# Altium footprint library DT15-4P.PcbLib: 1 footprints
Each footprint in its own frame and in the unit in brackets; x right, y up, seen from the top. Pads: shape width x height; smd on the part's side, far side on the other; paste and mask are expansions set on the pad; w line width, h text height; cw(c..) or ccw(c..) is an arc to the next point about the centre after c.
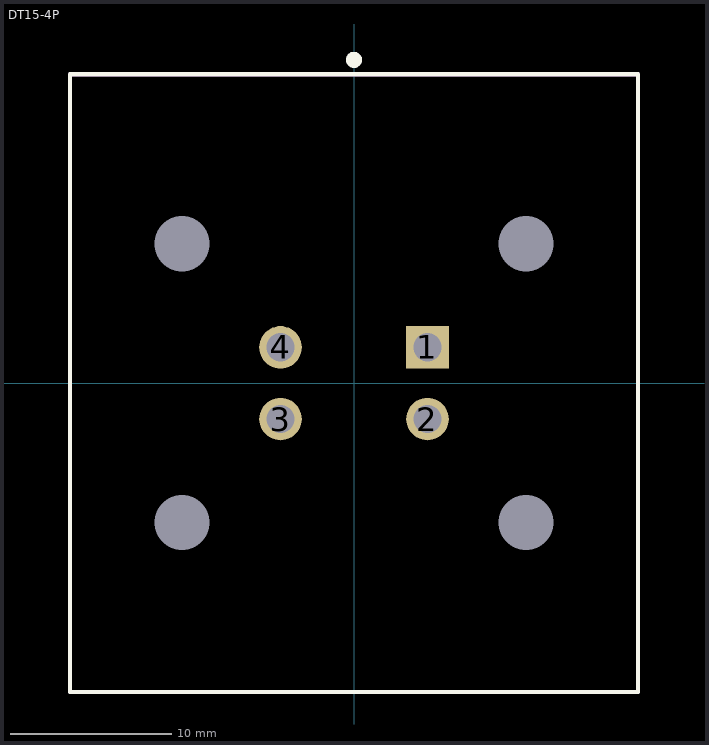
[diagram p0: the footprint, top view; thin cyan lines are the x and y axes]

## DT15-4P [mm]
pads (8):
  rect 2.64x2.64 hole 1.76: 1(4.56,2.225)
  round 2.64 hole 1.76: 2(4.56,-2.225) 3(-4.56,-2.225) 4(-4.56,2.225)
  round 1 hole 3.429 unplated: ""(-10.67,-8.65) ""(-10.67,8.65) ""(10.67,-8.65) ""(10.67,8.65)
Top Overlay:
  circle w0.5: c0,20.066 r0.25
  lines w0.254: -17.625,-19.175 -17.625,19.175 17.625,19.175 17.625,-19.175 -17.625,-19.175
Mechanical 4:
  lines w0.254: -17.625,-19.175 -17.625,19.175 ; -17.625,-19.175 17.625,-19.175 ; -17.625,-19.175 -17.625,19.175 ; -17.625,-19.175 17.625,-19.175 ; -17.625,19.175 17.625,19.175 ; -17.625,19.175 17.625,19.175 ; 17.625,-19.175 17.625,19.175 ; 17.625,-19.175 17.625,19.175
3D body "c-dt15-4p-99-3d.stp": height 30.35, standoff -3.1, extent -17.627,-17.677 17.628,20.677
3D body: height 0.25, standoff -33.27, extent 0.127,0 0.127,0